# Altium integrated library lorawan_gateway.IntLib: 62 symbols
Pins are listed as number, name and electrical type; pins without a type are passive.

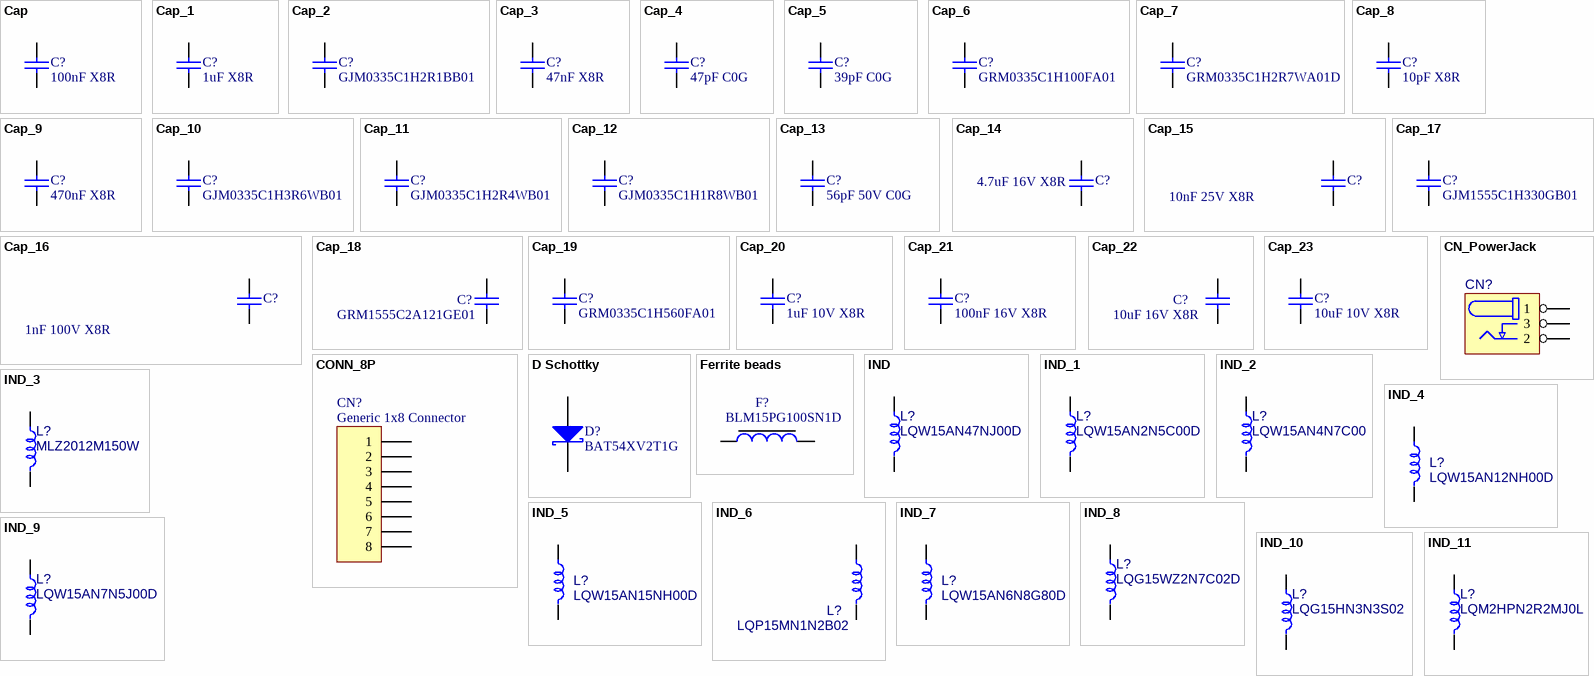
[diagram p0: symbols Cap to IND_11]

## Cap
designator C?, comment 100nF X8R
Capacitor; MPN: *; Manufacturer: *; Package: *; Price (USD): *; ComponentLink2Description: SupplierLink; ComponentLink1Description: Datasheet; ComponentLink2URL: *; ComponentLink1URL: *; Value: *
footprint C_0603 (Capacitor 0603)
pins: 1, 2

## Cap_1
designator C?, comment 1uF X8R
Capacitor; MPN: *; Manufacturer: *; Package: *; Price (USD): *; ComponentLink2Description: SupplierLink; ComponentLink1Description: Datasheet; ComponentLink2URL: *; ComponentLink1URL: *; Value: *
footprint C_0603 (Capacitor 0603)
pins: 1, 2

## Cap_2
designator C?, comment GJM0335C1H2R1BB01
Capacitor; MPN: GJM0335C1H2R1BB01; Manufacturer: *; Package: *; Price (USD): *; ComponentLink2Description: SupplierLink; ComponentLink1Description: Datasheet; ComponentLink2URL: *; ComponentLink1URL: *; Value: *
footprint C_0603 (Capacitor 0603)
pins: 1, 2

## Cap_3
designator C?, comment 47nF X8R
Capacitor; MPN: *; Manufacturer: *; Package: *; Price (USD): *; ComponentLink2Description: SupplierLink; ComponentLink1Description: Datasheet; ComponentLink2URL: *; ComponentLink1URL: *; Value: *
footprint C_0603 (Capacitor 0603)
pins: 1, 2

## Cap_4
designator C?, comment 47pF C0G
Capacitor; MPN: *; Manufacturer: *; Package: *; Price (USD): *; ComponentLink2Description: SupplierLink; ComponentLink1Description: Datasheet; ComponentLink2URL: *; ComponentLink1URL: *; Value: *
footprint C_0603 (Capacitor 0603)
pins: 1, 2

## Cap_5
designator C?, comment 39pF C0G
Capacitor; MPN: *; Manufacturer: *; Package: *; Price (USD): *; ComponentLink2Description: SupplierLink; ComponentLink1Description: Datasheet; ComponentLink2URL: *; ComponentLink1URL: *; Value: *
footprint C_0603 (Capacitor 0603)
pins: 1, 2

## Cap_6
designator C?, comment GRM0335C1H100FA01
Capacitor; MPN: GRM0335C1H100FA01; Manufacturer: *; Package: *; Price (USD): *; ComponentLink2Description: SupplierLink; ComponentLink1Description: Datasheet; ComponentLink2URL: *; ComponentLink1URL: *; Value: *
footprint C_0603 (Capacitor 0603)
pins: 1, 2

## Cap_7
designator C?, comment GRM0335C1H2R7WA01D
Capacitor; MPN: GRM0335C1H2R7WA01D; Manufacturer: *; Package: *; Price (USD): *; ComponentLink2Description: SupplierLink; ComponentLink1Description: Datasheet; ComponentLink2URL: *; ComponentLink1URL: *; Value: *
footprint C_0603 (Capacitor 0603)
pins: 1, 2

## Cap_8
designator C?, comment 10pF X8R
Capacitor; MPN: *; Manufacturer: *; Package: *; Price (USD): *; ComponentLink2Description: SupplierLink; ComponentLink1Description: Datasheet; ComponentLink2URL: *; ComponentLink1URL: *; Value: *
footprint C_0603 (Capacitor 0603)
pins: 1, 2

## Cap_9
designator C?, comment 470nF X8R
Capacitor; MPN: *; Manufacturer: *; Package: *; Price (USD): *; ComponentLink2Description: SupplierLink; ComponentLink1Description: Datasheet; ComponentLink2URL: *; ComponentLink1URL: *; Value: *
footprint C_0603 (Capacitor 0603)
pins: 1, 2

## Cap_10
designator C?, comment GJM0335C1H3R6WB01
Capacitor; MPN: GJM0335C1H3R6WB01; Manufacturer: *; Package: *; Price (USD): *; ComponentLink2Description: SupplierLink; ComponentLink1Description: Datasheet; ComponentLink2URL: *; ComponentLink1URL: *; Value: *
footprint C_0603 (Capacitor 0603)
pins: 1, 2

## Cap_11
designator C?, comment GJM0335C1H2R4WB01
Capacitor; MPN: GJM0335C1H2R4WB01; Manufacturer: *; Package: *; Price (USD): *; ComponentLink2Description: SupplierLink; ComponentLink1Description: Datasheet; ComponentLink2URL: *; ComponentLink1URL: *; Value: *
footprint C_0603 (Capacitor 0603)
pins: 1, 2

## Cap_12
designator C?, comment GJM0335C1H1R8WB01
Capacitor; MPN: GJM0335C1H1R8WB01; Manufacturer: *; Package: *; Price (USD): *; ComponentLink2Description: SupplierLink; ComponentLink1Description: Datasheet; ComponentLink2URL: *; ComponentLink1URL: *; Value: *
footprint C_0603 (Capacitor 0603)
pins: 1, 2

## Cap_13
designator C?, comment 56pF 50V C0G
Capacitor; MPN: *; Manufacturer: *; Package: *; Price (USD): *; ComponentLink2Description: SupplierLink; ComponentLink1Description: Datasheet; ComponentLink2URL: *; ComponentLink1URL: *; Value: *
footprint C_0603 (Capacitor 0603)
pins: 1, 2

## Cap_14
designator C?, comment 4.7uF 16V X8R
Capacitor; MPN: *; Manufacturer: *; Package: *; Price (USD): *; ComponentLink2Description: SupplierLink; ComponentLink1Description: Datasheet; ComponentLink2URL: *; ComponentLink1URL: *; Value: *
footprint C_0603 (Capacitor 0603)
pins: 1, 2

## Cap_15
designator C?, comment 10nF 25V X8R
Capacitor; MPN: *; Manufacturer: *; Package: *; Price (USD): *; ComponentLink2Description: SupplierLink; ComponentLink1Description: Datasheet; ComponentLink2URL: *; ComponentLink1URL: *; Value: *
footprint C_0603 (Capacitor 0603)
pins: 1, 2

## Cap_16
designator C?, comment 1nF 100V X8R
Capacitor; MPN: *; Manufacturer: *; Package: *; Price (USD): *; ComponentLink2Description: SupplierLink; ComponentLink1Description: Datasheet; ComponentLink2URL: *; ComponentLink1URL: *; Value: *
footprint C_0603 (Capacitor 0603)
pins: 1, 2

## Cap_17
designator C?, comment GJM1555C1H330GB01
Capacitor; MPN: *; Manufacturer: *; Package: *; Price (USD): *; ComponentLink2Description: SupplierLink; ComponentLink1Description: Datasheet; ComponentLink2URL: *; ComponentLink1URL: *; Value: *
footprint C_0603 (Capacitor 0603)
pins: 1, 2

## Cap_18
designator C?, comment GRM1555C2A121GE01
Capacitor; MPN: *; Manufacturer: *; Package: *; Price (USD): *; ComponentLink2Description: SupplierLink; ComponentLink1Description: Datasheet; ComponentLink2URL: *; ComponentLink1URL: *; Value: *
footprint C_0603 (Capacitor 0603)
pins: 1, 2

## Cap_19
designator C?, comment GRM0335C1H560FA01
Capacitor; MPN: *; Manufacturer: *; Package: *; Price (USD): *; ComponentLink2Description: SupplierLink; ComponentLink1Description: Datasheet; ComponentLink2URL: *; ComponentLink1URL: *; Value: *
footprint C_0603 (Capacitor 0603)
pins: 1, 2

## Cap_20
designator C?, comment 1uF 10V X8R
Capacitor; MPN: *; Manufacturer: *; Package: *; Price (USD): *; ComponentLink2Description: SupplierLink; ComponentLink1Description: Datasheet; ComponentLink2URL: *; ComponentLink1URL: *; Value: *
footprint C_0603 (Capacitor 0603)
pins: 1, 2

## Cap_21
designator C?, comment 100nF 16V X8R
Capacitor; MPN: *; Manufacturer: *; Package: *; Price (USD): *; ComponentLink2Description: SupplierLink; ComponentLink1Description: Datasheet; ComponentLink2URL: *; ComponentLink1URL: *; Value: *
footprint C_0603 (Capacitor 0603)
pins: 1, 2

## Cap_22
designator C?, comment 10uF 16V X8R
Capacitor; MPN: *; Manufacturer: *; Package: *; Price (USD): *; ComponentLink2Description: SupplierLink; ComponentLink1Description: Datasheet; ComponentLink2URL: *; ComponentLink1URL: *; Value: *
footprint C_0603 (Capacitor 0603)
pins: 1, 2

## Cap_23
designator C?, comment 10uF 10V X8R
Capacitor; MPN: *; Manufacturer: *; Package: *; Price (USD): *; ComponentLink2Description: SupplierLink; ComponentLink1Description: Datasheet; ComponentLink2URL: *; ComponentLink1URL: *; Value: *
footprint C_0603 (Capacitor 0603)
pins: 1, 2

## CN_PowerJack
designator CN?, comment Barrel Power Connector  (value not drawn)
CONN PWR JACK 2.5X5.5MM SOLDER; Manufacturer: CUI Devices; MPN: PJ-002B; ComponentLink1Description: Datasheet; ComponentLink2Description: SupplierLink; ComponentLink2URL: https://www.digikey.com/en/products/detail/cui-devices/PJ-002B/96965; Package: Barrel jack connector; Price (USD): 0.71; Supplier: Digikey; Value: CONN PWR JACK 2.5X5.5MM SOLDER
footprint PJ002B
pins: 1, 2, 3

## CONN_8P
designator CN?, comment Generic 1x8 Connector
Connector Generic 8 Vias; ComponentLink1Description: Datasheet; ComponentLink2Description: SupplierLink
footprint Header_M_1x8_0.1" (Header Male 1 x 8 Vias Pitch 100mils)
pins: 1, 2, 3, 4, 5, 6, 7, 8

## D Schottky
designator D?, comment BAT54XV2T1G
DIODE SCHOTTKY 30V 200MA SOD523; Manufacturer: onsemi; ComponentLink1Description: Datasheet; ComponentLink1URL: https://www.onsemi.com/pdf/datasheet/bat54xv2t1-d.pdf; ComponentLink2Description: SupplierLink; ComponentLink2URL: https://www.digikey.com/en/products/detail/onsemi/BAT54XV2T1G/918321; MPN: BAT54XV2T1G; Package: SOD-523; Price (USD): 0.26; Supplier: Digikey; Value: DIODE SCHOTTKY 30V 200MA SOD523
footprint SOD-523
pins: 1 K, 2 A

## Ferrite beads
designator F?, comment BLM15PG100SN1D
Ferrite bead 10 ohm 1A; Manufacturer: Murata Electronics; ComponentLink1Description: Datasheet; ComponentLink2Description: SupplierLink; MPN: BLM15PG100SN1D; Package: 0402; Price (USD): 0.1; Supplier: Digikey; Value: Ferrite bead 10 ohm 1A
footprint L_0402
pins: 1, 2

## IND
designator L?, comment LQW15AN47NJ00D
Inductor; Manufacturer: *; MPN: LQW15AN47NJ00D; Package: *; Price (USD): *; Value: *; ComponentLink1Description: Datasheet; ComponentLink1URL: *; ComponentLink2Description: SupplierLink; ComponentLink2URL: *
footprint L_0402
pins: 1, 2

## IND_1
designator L?, comment LQW15AN2N5C00D
Inductor; Manufacturer: *; MPN: LQW15AN2N5C00D; Package: *; Price (USD): *; Value: *; ComponentLink1Description: Datasheet; ComponentLink1URL: *; ComponentLink2Description: SupplierLink; ComponentLink2URL: *
footprint L_0402
pins: 1, 2

## IND_2
designator L?, comment LQW15AN4N7C00
Inductor; Manufacturer: *; MPN: LQW15AN4N7C00; Package: *; Price (USD): *; Value: *; ComponentLink1Description: Datasheet; ComponentLink1URL: *; ComponentLink2Description: SupplierLink; ComponentLink2URL: *
footprint L_0402
pins: 1, 2

## IND_3
designator L?, comment MLZ2012M150W
FIXED IND 15UH 250MA 950MOHM SMD; Manufacturer: TDK Corporation; MPN: MLZ2012M150WT000; Package: 0805; Price (USD): 0.13; Value: FIXED IND 15UH 250MA 950MOHM SMD; ComponentLink1Description: Datasheet; ComponentLink1URL: *; ComponentLink2Description: SupplierLink; ComponentLink2URL: *; Supplier: Digikey
footprint 0805[2012] (Chip Resistor, Body 2.0x1.2mm, IPC Medium Density)
pins: 1, 2

## IND_4
designator L?, comment LQW15AN12NH00D
Inductor; Manufacturer: *; MPN: LQW15AN12NH00D; Package: *; Price (USD): *; Value: *; ComponentLink1Description: Datasheet; ComponentLink1URL: *; ComponentLink2Description: SupplierLink; ComponentLink2URL: *
footprint L_0402
pins: 1, 2

## IND_5
designator L?, comment LQW15AN15NH00D
Inductor; Manufacturer: *; MPN: LQW15AN15NH00D; Package: *; Price (USD): *; Value: *; ComponentLink1Description: Datasheet; ComponentLink1URL: *; ComponentLink2Description: SupplierLink; ComponentLink2URL: *
footprint L_0402
pins: 1, 2

## IND_6
designator L?, comment LQP15MN1N2B02
Inductor; Manufacturer: *; MPN: *; Package: *; Price (USD): *; Value: *; ComponentLink1Description: Datasheet; ComponentLink1URL: *; ComponentLink2Description: SupplierLink; ComponentLink2URL: *
footprint L_0402
pins: 1, 2

## IND_7
designator L?, comment LQW15AN6N8G80D
Inductor; Manufacturer: *; MPN: *; Package: *; Price (USD): *; Value: *; ComponentLink1Description: Datasheet; ComponentLink1URL: *; ComponentLink2Description: SupplierLink; ComponentLink2URL: *
footprint L_0402
pins: 1, 2

## IND_8
designator L?, comment LQG15WZ2N7C02D
Inductor; Manufacturer: *; MPN: *; Package: *; Price (USD): *; Value: *; ComponentLink1Description: Datasheet; ComponentLink1URL: *; ComponentLink2Description: SupplierLink; ComponentLink2URL: *
footprint L_0402
pins: 1, 2

## IND_9
designator L?, comment LQW15AN7N5J00D
Inductor; Manufacturer: *; MPN: *; Package: *; Price (USD): *; Value: *; ComponentLink1Description: Datasheet; ComponentLink1URL: *; ComponentLink2Description: SupplierLink; ComponentLink2URL: *
footprint L_0402
pins: 1, 2

## IND_10
designator L?, comment LQG15HN3N3S02
Inductor; Manufacturer: *; MPN: *; Package: *; Price (USD): *; Value: *; ComponentLink1Description: Datasheet; ComponentLink1URL: *; ComponentLink2Description: SupplierLink; ComponentLink2URL: *
footprint L_0402
pins: 1, 2

## IND_11
designator L?, comment LQM2HPN2R2MJ0L
FIXED IND 2.2UH 1A 150 MOHM; Manufacturer: Murata Electronics; MPN: LQM2HPN2R2MJ0L; Package: 1008; Price (USD): 0.24; Value: FIXED IND 2.2UH 1A 150 MOHM; ComponentLink1Description: Datasheet; ComponentLink1URL: https://search.murata.co.jp/Ceramy/image/img/P02/JELF243B-0016.pdf; ComponentLink2Description: SupplierLink; ComponentLink2URL: https://www.digikey.com/en/products/detail/murata-electronics/LQM2HPN2R2MJ0L/2594611?s=N4IgTCBcDaIDIEUCyYASAFAcmASmJAUgAxwgC6AvkA; Supplier: Digikey
footprint L_1008
pins: 1, 2

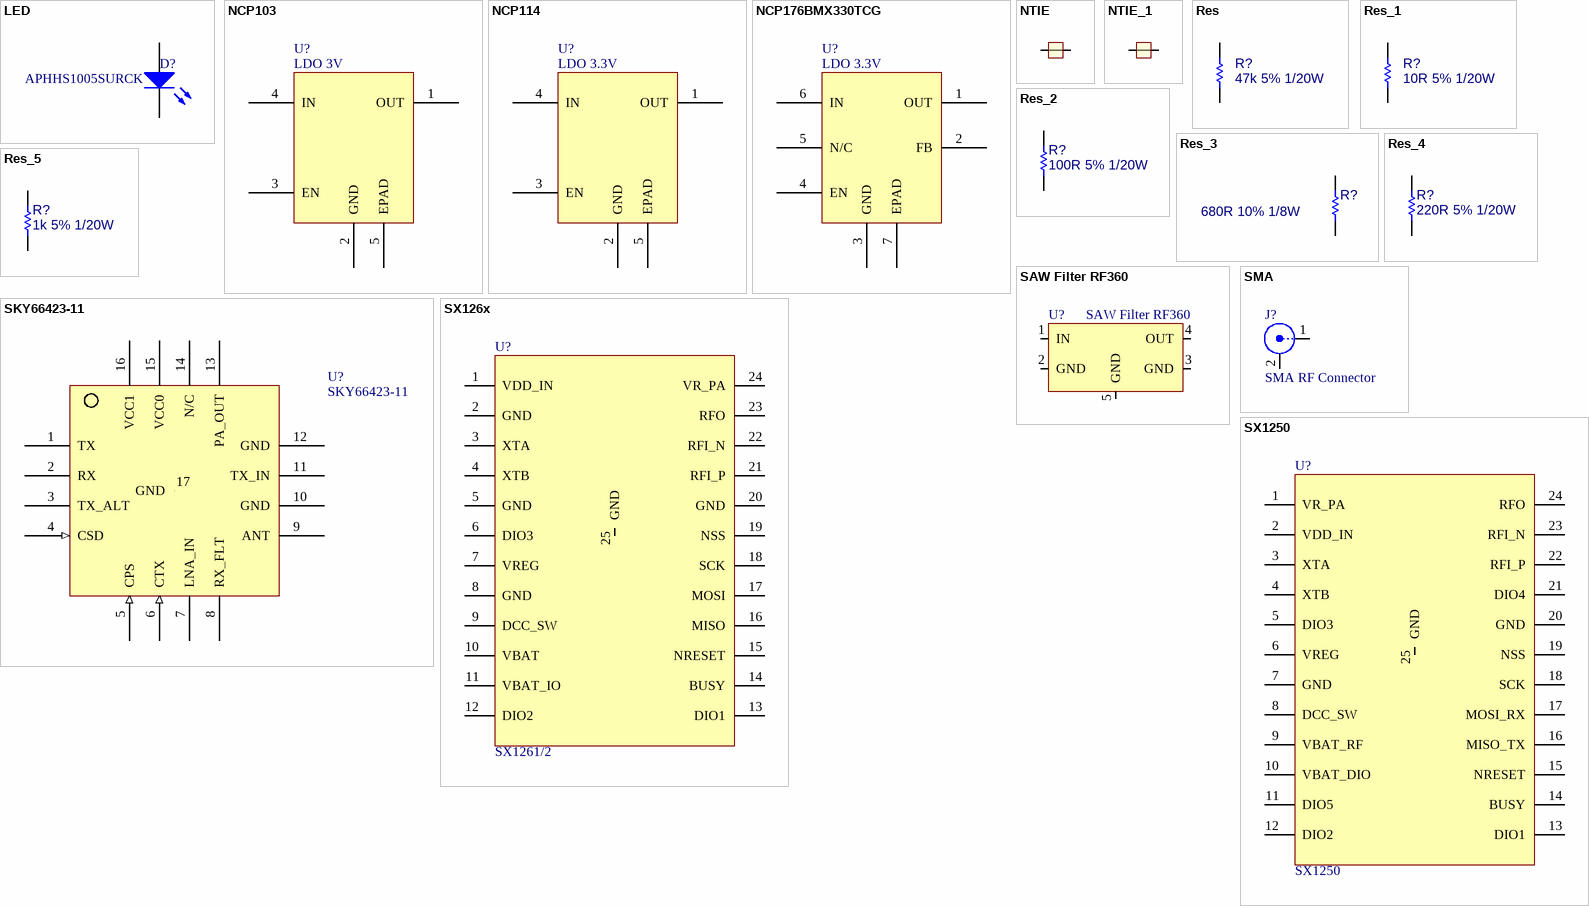
[diagram p1: symbols LED to SX1250]

## LED
designator D?, comment APHHS1005SURCK
LED; Manufacturer: kingbright; Value: LED RED CLEAR CHIP SMD; ComponentLink1Description: Datasheet; ComponentLink1URL: https://www.kingbrightusa.com/images/catalog/SPEC/APHHS1005SURCK.pdf; ComponentLink2Description: SupplierLink; ComponentLink2URL: https://www.digikey.com/en/products/detail/kingbright/APHHS1005SURCK/1747502; MPN: APHHS1005SURCK; Package: 0402  [1005]; Price (USD): 0.5; Supplier: Digikey
footprint D_0402
pins: 1 A, 2 K

## NCP103
designator U?, comment LDO 3V
LDO IC Positive Fixed 1 Output 150mA 4-UDFN; Manufacturer: onsemi; MPN: NCP103AMX300TCG; ComponentLink1Description: Datasheet; ComponentLink1URL: https://www.onsemi.com/pdf/datasheet/ncp103-d.pdf; ComponentLink2Description: SupplierLink; ComponentLink2URL: https://www.digikey.com/en/products/detail/onsemi/NCP103AMX300TCG/5022525?s=N4IgTCBcDaIHIGEAKBGADAZgIIFkAaGaaAKggOIgC6AvkA; Package: 4-UDFN (1.0x1.0); Price (USD): 0.07; Supplier: Digikey; Value: LDO 3V
footprint UDFN4_1x1mm
pins: 1 OUT, 2 GND, 3 EN, 4 IN, 5 EPAD

## NCP114
designator U?, comment LDO 3.3V
LDO IC Positive Fixed 1 Output 300mA 4-UDFN (1.0x1.0); Manufacturer: onsemi; MPN: NCP114AMX330TBG; ComponentLink1Description: Datasheet; ComponentLink1URL: https://www.onsemi.com/pdf/datasheet/ncp114-d.pdf; ComponentLink2Description: SupplierLink; ComponentLink2URL: https://www.digikey.com/en/products/detail/onsemi/NCP114AMX330TBG/6166731?s=N4IgTCBcDaIHIGEAKBGFAWAggWQBoGZ8AGAFQCEBxEAXQF8g; Package: 4UDFN; Price (USD): 0.48; Supplier: Digikey; Value: LDO 3.3V
footprint UDFN4_1x1mm
pins: 1 OUT, 2 GND, 3 EN, 4 IN, 5 EPAD

## NCP176BMX330TCG
designator U?, comment LDO 3.3V
LDO IC Positive Fixed 1 Output 500mA 6-XDFN (1.2x1.2); Manufacturer: onsemi; MPN: NCP176BMX330TCG; ComponentLink1Description: Datasheet; ComponentLink1URL: https://www.onsemi.com/pdf/datasheet/ncp176-d.pdf; ComponentLink2Description: SupplierLink; ComponentLink2URL: https://www.digikey.com/en/products/detail/onsemi/NCP176BMX330TCG/5817227?s=N4IgTCBcDaIHIGEAKBGA7ANgEIFkAaAzAQAwAqCA4iALoC%2BQA; Package: 6-XDFN (1.2x1.2); Price (USD): 0.47; Supplier: Digikey; Value: LDO 3.3V
footprint XDFN6_1.2X1.2mm (6 Leads, Body 1.2x1.2mm, pitch 0.40mm, XDFN6)
pins: 1 OUT, 2 FB, 3 GND, 4 EN, 5 N/C, 6 IN, 7 EPAD

## NTIE
designator NT?, comment NT  (value not drawn)  (net tie, no BOM)
NET_TIE
footprint NTIE12 (NTIE 12mil)
pins: 1, 2

## NTIE_1
designator NT?, comment NT  (value not drawn)  (net tie, no BOM)
NET_TIE; ComponentLink1Description: Datasheet; ComponentLink2Description: SupplierLink
footprint NTIE12 (NTIE 12mil)
pins: 1, 2

## Res
designator R?, comment 47k 5% 1/20W
Resistor; Manufacturer: *; MPN: *; Package: *; Price (USD): *; Value: *; ComponentLink1Description: Datasheet; ComponentLink1URL: *; ComponentLink2Description: SupplierLink; ComponentLink2URL: *
footprint 0603[1608] (Chip Capacitor, Body 1.6x0.8mm, IPC High Density)
pins: 1, 2

## Res_1
designator R?, comment 10R 5% 1/20W
Resistor; Manufacturer: *; MPN: *; Package: *; Price (USD): *; Value: *; ComponentLink1Description: Datasheet; ComponentLink1URL: *; ComponentLink2Description: SupplierLink; ComponentLink2URL: *
footprint 0603[1608] (Chip Capacitor, Body 1.6x0.8mm, IPC High Density)
pins: 1, 2

## Res_2
designator R?, comment 100R 5% 1/20W
Resistor; Manufacturer: *; MPN: *; Package: *; Price (USD): *; Value: *; ComponentLink1Description: Datasheet; ComponentLink1URL: *; ComponentLink2Description: SupplierLink; ComponentLink2URL: *
footprint 0603[1608] (Chip Capacitor, Body 1.6x0.8mm, IPC High Density)
pins: 1, 2

## Res_3
designator R?, comment 680R 10% 1/8W
Resistor; Manufacturer: *; MPN: *; Package: *; Price (USD): *; Value: *; ComponentLink1Description: Datasheet; ComponentLink1URL: *; ComponentLink2Description: SupplierLink; ComponentLink2URL: *
footprint 0603[1608] (Chip Capacitor, Body 1.6x0.8mm, IPC High Density)
pins: 1, 2

## Res_4
designator R?, comment 220R 5% 1/20W
Resistor; Manufacturer: *; MPN: *; Package: *; Price (USD): *; Value: *; ComponentLink1Description: Datasheet; ComponentLink1URL: *; ComponentLink2Description: SupplierLink; ComponentLink2URL: *
footprint 0603[1608] (Chip Capacitor, Body 1.6x0.8mm, IPC High Density)
pins: 1, 2

## Res_5
designator R?, comment 1k 5% 1/20W
Resistor; Manufacturer: *; MPN: *; Package: *; Price (USD): *; Value: *; ComponentLink1Description: Datasheet; ComponentLink1URL: *; ComponentLink2Description: SupplierLink; ComponentLink2URL: *
footprint 0603[1608] (Chip Capacitor, Body 1.6x0.8mm, IPC High Density)
pins: 1, 2

## SAW Filter RF360
designator U?
Manufacturer: Qualcomm; MPN: B39921B4344P810; Value: 915MHz Frequency General Purpose RF SAW Filter (Surface Acoustic Wave) 2.8dB 26MHz Bandwidth 5-SMD, No Lead; ComponentLink1Description: Datasheet; ComponentLink2Description: SupplierLink; Package: QCS5P 1.4x1.1mm; Price (USD): 1.82; Supplier: Digikey
footprint QCS5P_1.4x1.1mm (QCS5P footprint, 1.4x1.1mm; TDK)
pins: 1 IN, 2 GND, 3 GND, 4 OUT, 5 GND

## SKY66423-11
designator U?
SKY66423-11 - 860 to 930MHz Front-End Module; Manufacturer: Skyworks Solutions; Value: RF Front End 860MHz ~ 930MHz; ComponentLink1Description: Datasheet; ComponentLink1URL: https://www.skyworksinc.com/-/media/SkyWorks/Documents/Products/2801-2900/SKY66423_11_204566J.pdf; ComponentLink2Description: SupplierLink; ComponentLink2URL: https://www.digikey.com/en/products/detail/skyworks-solutions-inc/SKY66423-11/9603432; MPN: SKY66423-11; Package: MCM-16 3x3mm; Price (USD): 3; Supplier: Digikey
footprint SKY66420_16P_3x3mm (16 Leads, Body 3.0x3.0mm, Pitch 0.50mm)
pins: 1 TX, 2 RX, 3 TX_ALT, 4 CSD (in), 5 CPS (in), 6 CTX (in), 7 LNA_IN, 8 RX_FLT, 9 ANT, 10 GND (power), 11 TX_IN, 12 GND (power), 13 PA_OUT, 14 N/C, 15 VCC0, 16 VCC1 (power), 17 GND (power)

## SMA
designator J?, comment SMA RF Connector
SMA 50 Ohm military grade THT connector; Manufacturer: TE Connectivity Aerospace, Defense and Marine; MPN: 1053374-1; Value: SMA female; ComponentLink1Description: Datasheet; ComponentLink1URL: https://www.te.com/commerce/DocumentDelivery/DDEController?Action=srchrtrv&DocNm=1053374&DocType=Customer+Drawing&DocLang=English; ComponentLink2Description: SupplierLink; ComponentLink2URL: https://www.digikey.com/en/products/detail/te-connectivity-aerospace-defense-and-marine/1053374-1/1131391; Package: SMA; Price (USD): 56; Supplier: Digikey
footprint SMA THT connector
pins: 1 Signal "RF signal", 2 GND "Ground signal", 2 GND "Ground signal"

## SX126x
designator U?, comment SX1261/2
SX1261/2 - Ultra low power RF transceiver; Manufacturer: Semtech; MPN: SX1261IMLTRT; Value: IC RF TXRX ISM<1GHZ 24VFQFN; ComponentLink1Description: Datasheet; ComponentLink1URL: https://semtech.my.salesforce.com/sfc/p/E0000000JelG/a/2R000000HT7B/4cQ1B3JG0iKRo9DGRkjVuxclfwB.3tfSUcGr.S_dPd4; ComponentLink2Description: SupplierLink; ComponentLink2URL: https://www.digikey.com/en/products/detail/semtech-corporation/SX1261IMLTRT/8564368?s=N4IgTCBcDaIM4A8CMYBsSQF0C%2BQ; Package: 24-VFQFN; Price (USD): 8; Supplier: Digikey
footprint vqfn24_4x4mm (24 Leads, Body 4.0x4.0mm, Pitch 0.50mm, VQFN24)
pins: 1 VDD_IN (power), 2 GND, 3 XTA, 4 XTB, 5 GND, 6 DIO3, 7 VREG (power), 8 GND, 9 DCC_SW (power), 10 VBAT (power), 11 VBAT_IO (power), 12 DIO2, 13 DIO1, 14 BUSY, 15 NRESET, 16 MISO, 17 MOSI, 18 SCK, 19 NSS, 20 GND, 21 RFI_P, 22 RFI_N, 23 RFO, 24 VR_PA, 25 GND

## SX1250
designator U?
SX1250 - Ultra low power RF Front-End; Manufacturer: Semtech; MPN: SX1250IMLTRT; Value: SUB-GHZ RF FRONT END TRANSCIEVER; ComponentLink1Description: Datasheet; ComponentLink1URL: https://semtech.my.salesforce.com/sfc/p/#E0000000JelG/a/2R000000HTAF/wqCYqYPC0Z5rgGvER7_RtmlGeQhc31idv6bvSW4c_FQ; ComponentLink2Description: SupplierLink; ComponentLink2URL: https://www.digikey.com/en/products/detail/semtech-corporation/SX1250IMLTRT/10379521?s=N4IgTCBcDaIM4A8CMYCsAGEBdAvkA; Package: 24-VFQFN; Price (USD): 10; Supplier: Digikey
footprint vqfn24_4x4mm (24 Leads, Body 4.0x4.0mm, Pitch 0.50mm, VQFN24)
pins: 1 VR_PA, 2 VDD_IN, 3 XTA, 4 XTB, 5 DIO3, 6 VREG (power), 7 GND (power), 8 DCC_SW, 9 VBAT_RF (power), 10 VBAT_DIO (power), 11 DIO5, 12 DIO2, 13 DIO1, 14 BUSY, 15 NRESET, 16 MISO_TX, 17 MOSI_RX, 18 SCK, 19 NSS, 20 GND (power), 21 DIO4, 22 RFI_P, 23 RFI_N, 24 RFO, 25 GND (power)

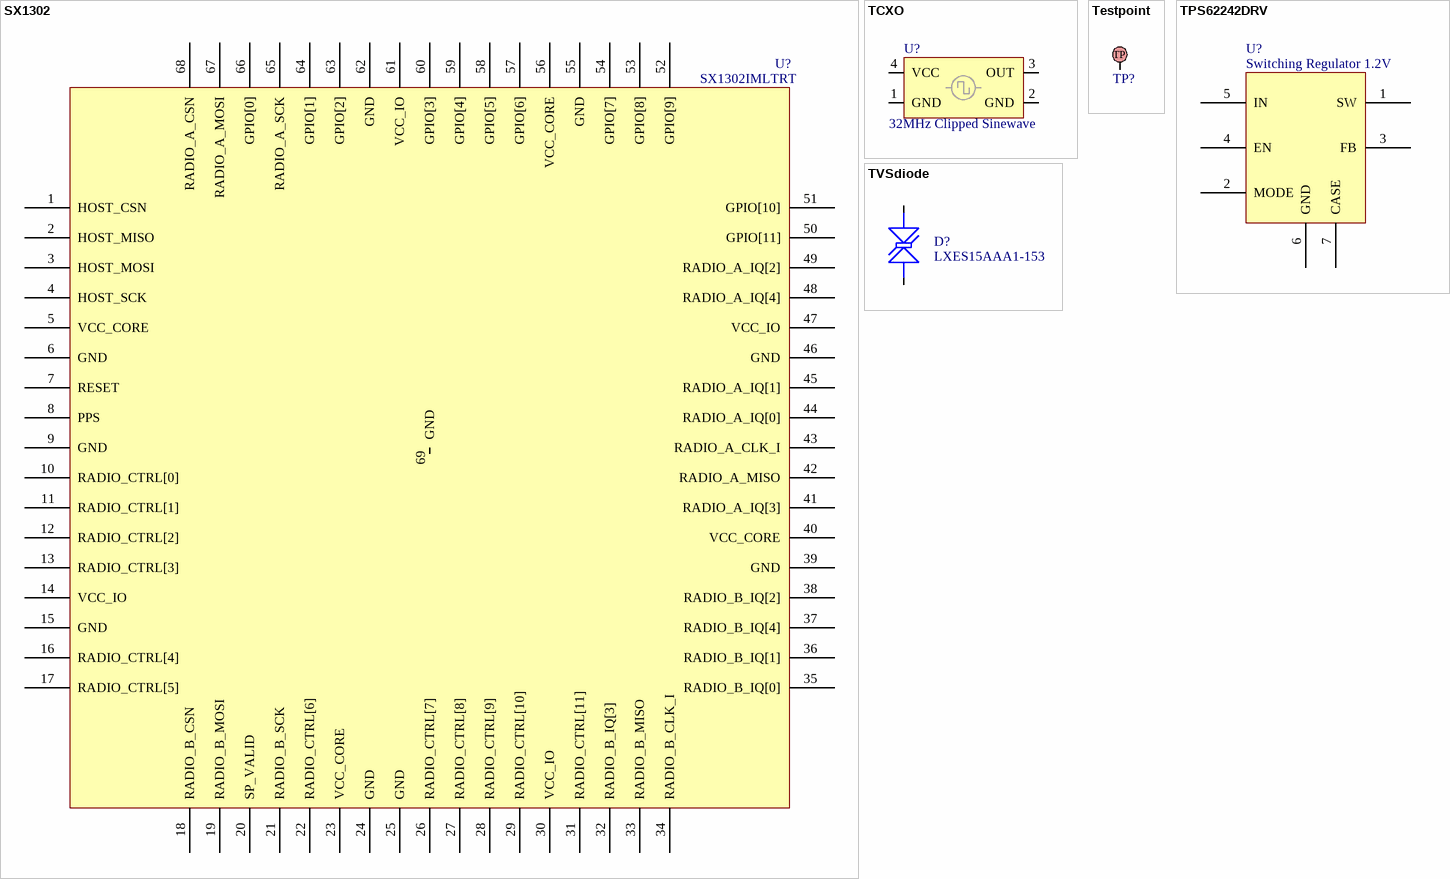
[diagram p2: symbols SX1302 to TVSdiode]

## SX1302
designator U?, comment SX1302IMLTRT
LoRa Core™ Digital Baseband Chip for LoRaWAN network gateways; Manufacturer: Semtech; MPN: SX1302; Value: SX1302; ComponentLink1Description: Datasheet; ComponentLink1URL: https://media.digikey.com/pdf/Data%20Sheets/Semtech%20PDFs/SX1302_rev1.1_Jan2020.pdf; ComponentLink2Description: SupplierLink; ComponentLink2URL: https://www.digikey.com/en/products/detail/SX1302IMLTRT/600-SX1302IMLTRTCT-ND/10379524?WT.z_cid=ref_netcomponents_dkc_buynow&utm_source=netcomponents&utm_medium=aggregator&utm_campaign=buynow; Package: QFN 7x7mm P=0.35mm; Price (USD): 37.75; Supplier: Digikey
footprint vqfn68_7x7mm (VQFN68 Leads, Body 7.0x7.0mm, Pitch 0.35mm)
pins: 1 HOST_CSN, 2 HOST_MISO, 3 HOST_MOSI, 4 HOST_SCK, 5 VCC_CORE, 6 GND (power), 7 RESET, 8 PPS, 9 GND (power), 10 RADIO_CTRL[0], 11 RADIO_CTRL[1], 12 RADIO_CTRL[2], 13 RADIO_CTRL[3], 14 VCC_IO, 15 GND (power), 16 RADIO_CTRL[4], 17 RADIO_CTRL[5], 18 RADIO_B_CSN, 19 RADIO_B_MOSI, 20 SP_VALID, 21 RADIO_B_SCK, 22 RADIO_CTRL[6], 23 VCC_CORE, 24 GND (power), 25 GND (power), 26 RADIO_CTRL[7], 27 RADIO_CTRL[8], 28 RADIO_CTRL[9], 29 RADIO_CTRL[10], 30 VCC_IO, 31 RADIO_CTRL[11], 32 RADIO_B_IQ[3], 33 RADIO_B_MISO, 34 RADIO_B_CLK_I, 35 RADIO_B_IQ[0], 36 RADIO_B_IQ[1], 37 RADIO_B_IQ[4], 38 RADIO_B_IQ[2], 39 GND (power), 40 VCC_CORE, 41 RADIO_A_IQ[3], 42 RADIO_A_MISO, 43 RADIO_A_CLK_I, 44 RADIO_A_IQ[0], 45 RADIO_A_IQ[1], 46 GND (power), 47 VCC_IO, 48 RADIO_A_IQ[4], 49 RADIO_A_IQ[2], 50 GPIO[11], 51 GPIO[10], 52 GPIO[9], 53 GPIO[8], 54 GPIO[7], 55 GND (power), 56 VCC_CORE, 57 GPIO[6], 58 GPIO[5], 59 GPIO[4], 60 GPIO[3], 61 VCC_IO, 62 GND (power), 63 GPIO[2], 64 GPIO[1], 65 RADIO_A_SCK, 66 GPIO[0], 67 RADIO_A_MOSI, 68 RADIO_A_CSN, 69 GND (power)

## TCXO
designator U?, comment 32MHz Clipped Sinewave
32MHz TCXO - Clipped Sinewave Output; Manufacturer: NDK America; MPN: NT2016SA 32MHz END4263A; ComponentLink1Description: Datasheet; ComponentLink1URL: https://media.digikey.com/pdf/Data%20Sheets/NDK%20PDFs/NT2016SA-32M-END4263A.pdf; ComponentLink2Description: SupplierLink; ComponentLink2URL: https://www.digikey.com/en/products/detail/ndk-america-inc/NT2016SA-32M-END4263A/8275433; Package: 4-SMD; Price (USD): 1; Supplier: Digikey; Value: 32MHz TCXO - Clipped Sinewave Output
footprint TCXO 2.0x1.6mm (SMD 2.0x1.6mm for TCXO or VCTCXO)
pins: 1 GND, 2 GND, 3 OUT, 4 VCC

## Testpoint
designator TP?, comment Single Pin Test Point  (value not drawn)  (no BOM)
ComponentLink1Description: Datasheet; ComponentLink2Description: SupplierLink
footprint testpoint
pins: 0
text: TP

## TPS62242DRV
designator U?, comment Switching Regulator 1.2V
Switching Regulator IC Positive Fixed 1.2V 1 Output 300mA 6-WDFN; Manufacturer: Texas Instruments; MPN: TPS62242DRVT; ComponentLink1Description: Datasheet; ComponentLink1URL: https://www.ti.com/lit/ds/symlink/tps62242.pdf?HQS=dis-dk-null-digikeymode-dsf-pf-null-wwe&ts=1656025395113; ComponentLink2Description: SupplierLink; ComponentLink2URL: https://www.digikey.com/en/products/detail/texas-instruments/TPS62242DRVT/1739884; Package: 6-WDFN Exposed Pad; Price (USD): 1.66; Supplier: Digikey; Value: Switching Regulator 1.2V
footprint WSON-6 (WSON, 6-Leads, Body 2x2mm, Pitch 0.65mm, Thermal Pad 1.6x1mm, TI Recommended)
pins: 1 SW, 2 MODE, 3 FB, 4 EN, 5 IN, 6 GND, 7 CASE

## TVSdiode
designator D?, comment LXES15AAA1-153
LXES Series - ESD Protection Device - Ultra Low Capacitance; Manufacturer: Murata Electronics; ComponentLink1Description: Datasheet; ComponentLink2Description: SupplierLink; MPN: LXES15AAA1-153; Package: 0402; Price (USD): .25; Supplier: Digikey; Value: LXES Series - ESD Protection Device - Ultra Low Capacitance
footprint D_0402
pins: 1 A, 2 K